# EAGLE library part NC189-009-51_VS (library con-subd)
DB9 FEMALE OVER FEMALE DUAL A=Bottom, B=Top NorComp
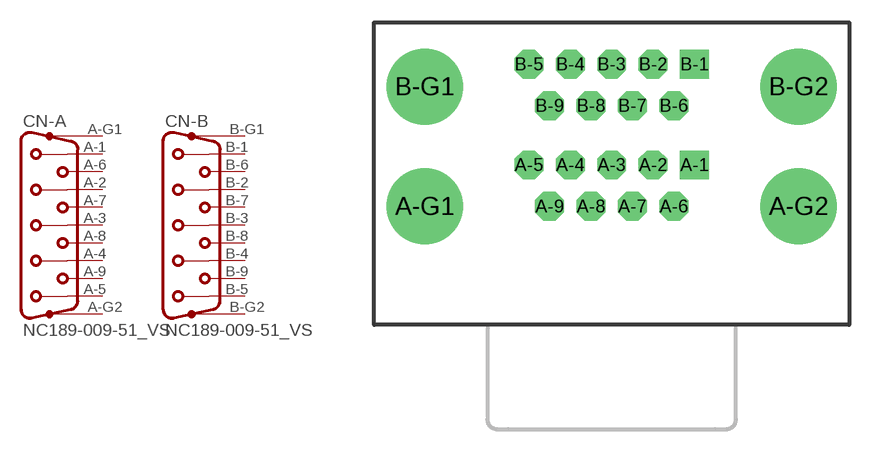
[diagram p80: symbol with the pads of NC189-009-51; footprint NC189-009-51]

Designator prefix CN; gates -A=F09G-VS -B=F09G-VS

## NC189-009-51_VS  [NC189-009-51]
A-1  -A:1  pas
A-2  -A:2  pas
A-3  -A:3  pas
A-4  -A:4  pas
A-5  -A:5  pas
A-6  -A:6  pas
A-7  -A:7  pas
A-8  -A:8  pas
A-9  -A:9  pas
A-G1  -A:G1  pas
A-G2  -A:G2  pas
B-1  -B:1  pas
B-2  -B:2  pas
B-3  -B:3  pas
B-4  -B:4  pas
B-5  -B:5  pas
B-6  -B:6  pas
B-7  -B:7  pas
B-8  -B:8  pas
B-9  -B:9  pas
B-G1  -B:G1  pas
B-G2  -B:G2  pas

## Footprint NC189-009-51 (pad centres in mm)
Norcomp 189-XXX Series Female Over Female, Dual Port, 9-Pin
drill 1.168 pad 1.93 square: A-1 5.537,2.769; B-1 5.537,9.498
drill 1.168 pad 1.93 octagon: A-2 2.769,2.769; A-3 0,2.769; A-4 -2.769,2.769; A-5 -5.537,2.769; A-6 4.153,0; A-7 1.384,0; A-8 -1.384,0; A-9 -4.153,0; B-2 2.769,9.498; B-3 0,9.498; B-4 -2.769,9.498; B-5 -5.537,9.498; B-6 4.153,6.729; B-7 1.384,6.729; B-8 -1.384,6.729; B-9 -4.153,6.729
drill 3.251 pad 5.08: A-G1 -12.497,0; A-G2 12.497,0; B-G1 -12.497,8.001; B-G2 12.497,8.001